# Altium schematic symbol library TPS61042.Schlib: 1 symbol
Pins are listed as number, name and electrical type; pins without a type are passive.

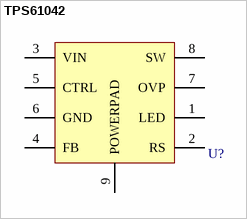
[diagram p0: symbol TPS61042]

## TPS61042
designator U?
pins: 1 LED, 2 RS, 3 VIN, 4 FB, 5 CTRL, 6 GND, 7 OVP, 8 SW, 9 POWERPAD
1 alternate drawing of the same symbol